# EAGLE library part OPA2991IDR (library NIPCB)
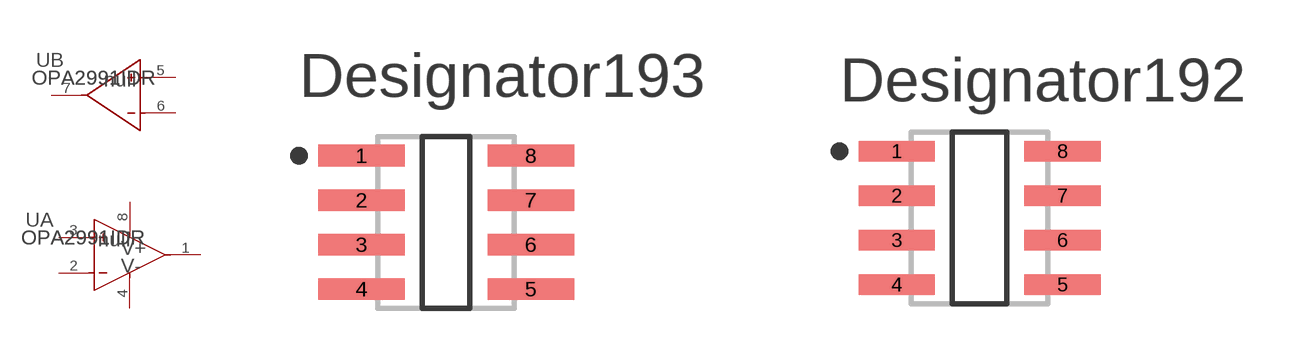
[diagram p4: symbol with the pads of D0008A-IPC_A; footprints D0008A-IPC_A, D0008A-IPC_B]

Designator prefix U; gates A=OPA2991D_A B=OPA2991D_B

## OPA2991IDRD0008A-IPC_A (COPYRIGHT: Copyright (C) 2024 Ultra Librarian. All rights reserved.; MANUFACTURER_PART_NUMBER: OPA2991IDR; MFR_NAME: Texas Instruments; REFDES: RefDes; TYPE: TYPE)  [D0008A-IPC_A]
1  A:OUT1  pas
2  A:IN1-  hiz
3  A:IN1+  hiz
4  A:V-  pwr
5  B:IN2+  hiz
6  B:IN2-  hiz
7  B:OUT2  pas
8  A:V+  pwr

## OPA2991IDRD0008A-IPC_B (COPYRIGHT: Copyright (C) 2024 Ultra Librarian. All rights reserved.; MANUFACTURER_PART_NUMBER: OPA2991IDR; MFR_NAME: Texas Instruments; REFDES: RefDes; TYPE: TYPE)  [D0008A-IPC_B]
Pads as for D0008A-IPC_A

## OPA2991IDRD0008A-IPC_C (COPYRIGHT: Copyright (C) 2024 Ultra Librarian. All rights reserved.; MANUFACTURER_PART_NUMBER: OPA2991IDR; MFR_NAME: Texas Instruments; REFDES: RefDes; TYPE: TYPE)  [D0008A-IPC_C]
Pads as for D0008A-IPC_A

## OPA2991IDRD0008A-MFG (COPYRIGHT: Copyright (C) 2024 Ultra Librarian. All rights reserved.; MANUFACTURER_PART_NUMBER: OPA2991IDR; MFR_NAME: Texas Instruments; REFDES: RefDes; TYPE: TYPE)  [D0008A-MFG]
Pads as for D0008A-IPC_A

## Footprint D0008A-IPC_A (pad centres in mm)
smd 2.469 x 0.622: 1 -2.414,1.905; 2 -2.414,0.635; 3 -2.414,-0.635; 4 -2.414,-1.905; 5 2.414,-1.905; 6 2.414,-0.635; 7 2.414,0.635; 8 2.414,1.905

## Footprint D0008A-IPC_B (pad centres in mm)
smd 2.169 x 0.582: 1 -2.364,1.905; 2 -2.364,0.635; 3 -2.364,-0.635; 4 -2.364,-1.905; 5 2.364,-1.905; 6 2.364,-0.635; 7 2.364,0.635; 8 2.364,1.905

## Footprint D0008A-IPC_C (pad centres in mm)
smd 1.869 x 0.542: 1 -2.314,1.905; 2 -2.314,0.635; 3 -2.314,-0.635; 4 -2.314,-1.905; 5 2.314,-1.905; 6 2.314,-0.635; 7 2.314,0.635; 8 2.314,1.905

## Footprint D0008A-MFG (pad centres in mm)
smd 1.55 x 0.6: 1 -2.7,1.905; 2 -2.7,0.635; 3 -2.7,-0.635; 4 -2.7,-1.905; 5 2.7,-1.905; 6 2.7,-0.635; 7 2.7,0.635; 8 2.7,1.905